# Altium schematic symbol library Flight_Controller.SchLib: 13 symbols
Pins are listed as number, name and electrical type; pins without a type are passive.

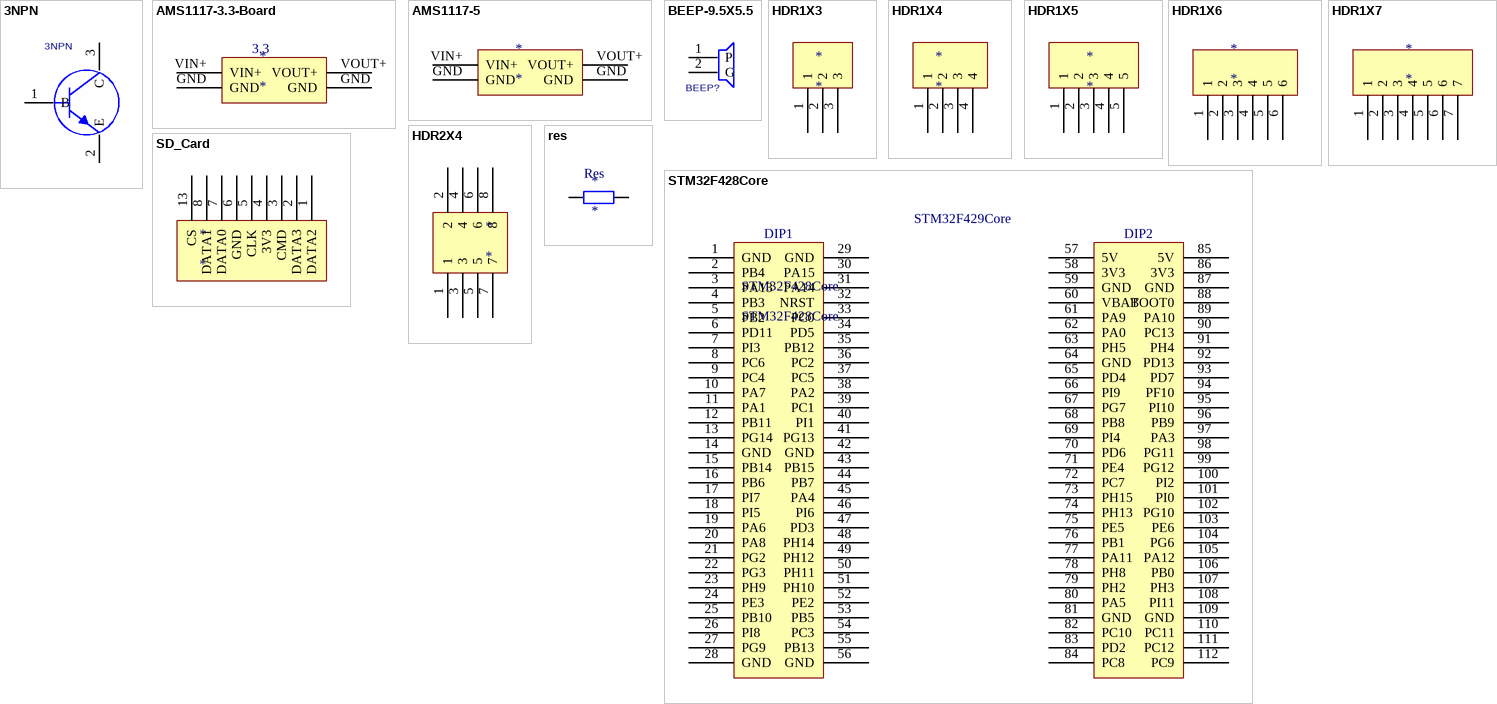
[diagram p0: symbols 3NPN to STM32F428Core]

## 3NPN
designator 3NPN, comment NPN  (value not drawn)
PCB DECAL: SOT-23; Manufacturer #2: 8050
pins: 1 B, 2 E, 3 C

## AMS1117-3.3-Board
designator *
pins: GND, GND, VIN+, VOUT+
text: 3.3

## AMS1117-5
designator *
pins: GND, GND, VIN+, VOUT+

## BEEP-9.5X5.5
designator BEEP?  (value not drawn)
PCB DECAL: BEEP-9.5X5.5
footprint BEEP-9.5X5.5
pins: 1 P, 2 G

## HDR1X3
designator *
pins: 1, 2, 3

## HDR1X4
designator *
pins: 1, 2, 3, 4

## HDR1X5
designator *
pins: 1, 2, 3, 4, 5

## HDR1X6
designator *
pins: 1, 2, 3, 4, 5, 6

## HDR1X7
designator *
pins: 1, 2, 3, 4, 5, 6, 7

## HDR2X4
designator *
pins: 1, 2, 3, 4, 5, 6, 7, 8

## res
designator *
footprint 0805
pins: 1, 2
text: Res

## SD_Card
designator *
pins: 1 DATA2, 2 DATA3, 3 CMD, 4 3V3, 5 CLK, 6 GND, 7 DATA0, 8 DATA1, 13 CS

## STM32F428Core
designator STM32F428Core
footprint STM32F429Core
pins: 1 GND, 2 PB4, 3 PA13, 4 PB3, 5 PB2, 6 PD11, 7 PI3, 8 PC6, 9 PC4, 10 PA7, 11 PA1, 12 PB11, 13 PG14, 14 GND, 15 PB14, 16 PB6, 17 PI7, 18 PI5, 19 PA6, 20 PA8, 21 PG2, 22 PG3, 23 PH9, 24 PE3, 25 PB10, 26 PI8, 27 PG9, 28 GND, 29 GND, 30 PA15, 31 PA14, 32 NRST, 33 PC0, 34 PD5, 35 PB12, 36 PC2, 37 PC5, 38 PA2, 39 PC1, 40 PI1, 41 PG13, 42 GND, 43 PB15, 44 PB7, 45 PA4, 46 PI6, 47 PD3, 48 PH14, 49 PH12, 50 PH11, 51 PH10, 52 PE2, 53 PB5, 54 PC3, 55 PB13, 56 GND, 57 5V, 58 3V3, 59 GND, 60 VBAT, 61 PA9, 62 PA0, 63 PH5, 64 GND, 65 PD4, 66 PI9, 67 PG7, 68 PB8, 69 PI4, 70 PD6, 71 PE4, 72 PC7, 73 PH15, 74 PH13, 75 PE5, 76 PB1, 77 PA11, 78 PH8, 79 PH2, 80 PA5, 81 GND, 82 PC10, 83 PD2, 84 PC8, 85 5V, 86 3V3, 87 GND, 88 BOOT0, 89 PA10, 90 PC13, 91 PH4, 92 PD13, 93 PD7, 94 PF10, 95 PI10, 96 PB9, 97 PA3, 98 PG11, 99 PG12, 100 PI2, 101 PI0, 102 PG10, 103 PE6, 104 PG6, 105 PA12, 106 PB0, 107 PH3, 108 PI11, 109 GND, 110 PC11, 111 PC12, 112 PC9
text: STM32F429Core; DIP1; DIP2